# Altium footprint library inductors.PcbLib: 86 footprints (part 2 of 6)
Each footprint in its own frame and in the unit in brackets; x right, y up, seen from the top. Pads: shape width x height; smd on the part's side, far side on the other; paste and mask are expansions set on the pad; w line width, h text height; cw(c..) or ccw(c..) is an arc to the next point about the centre after c.
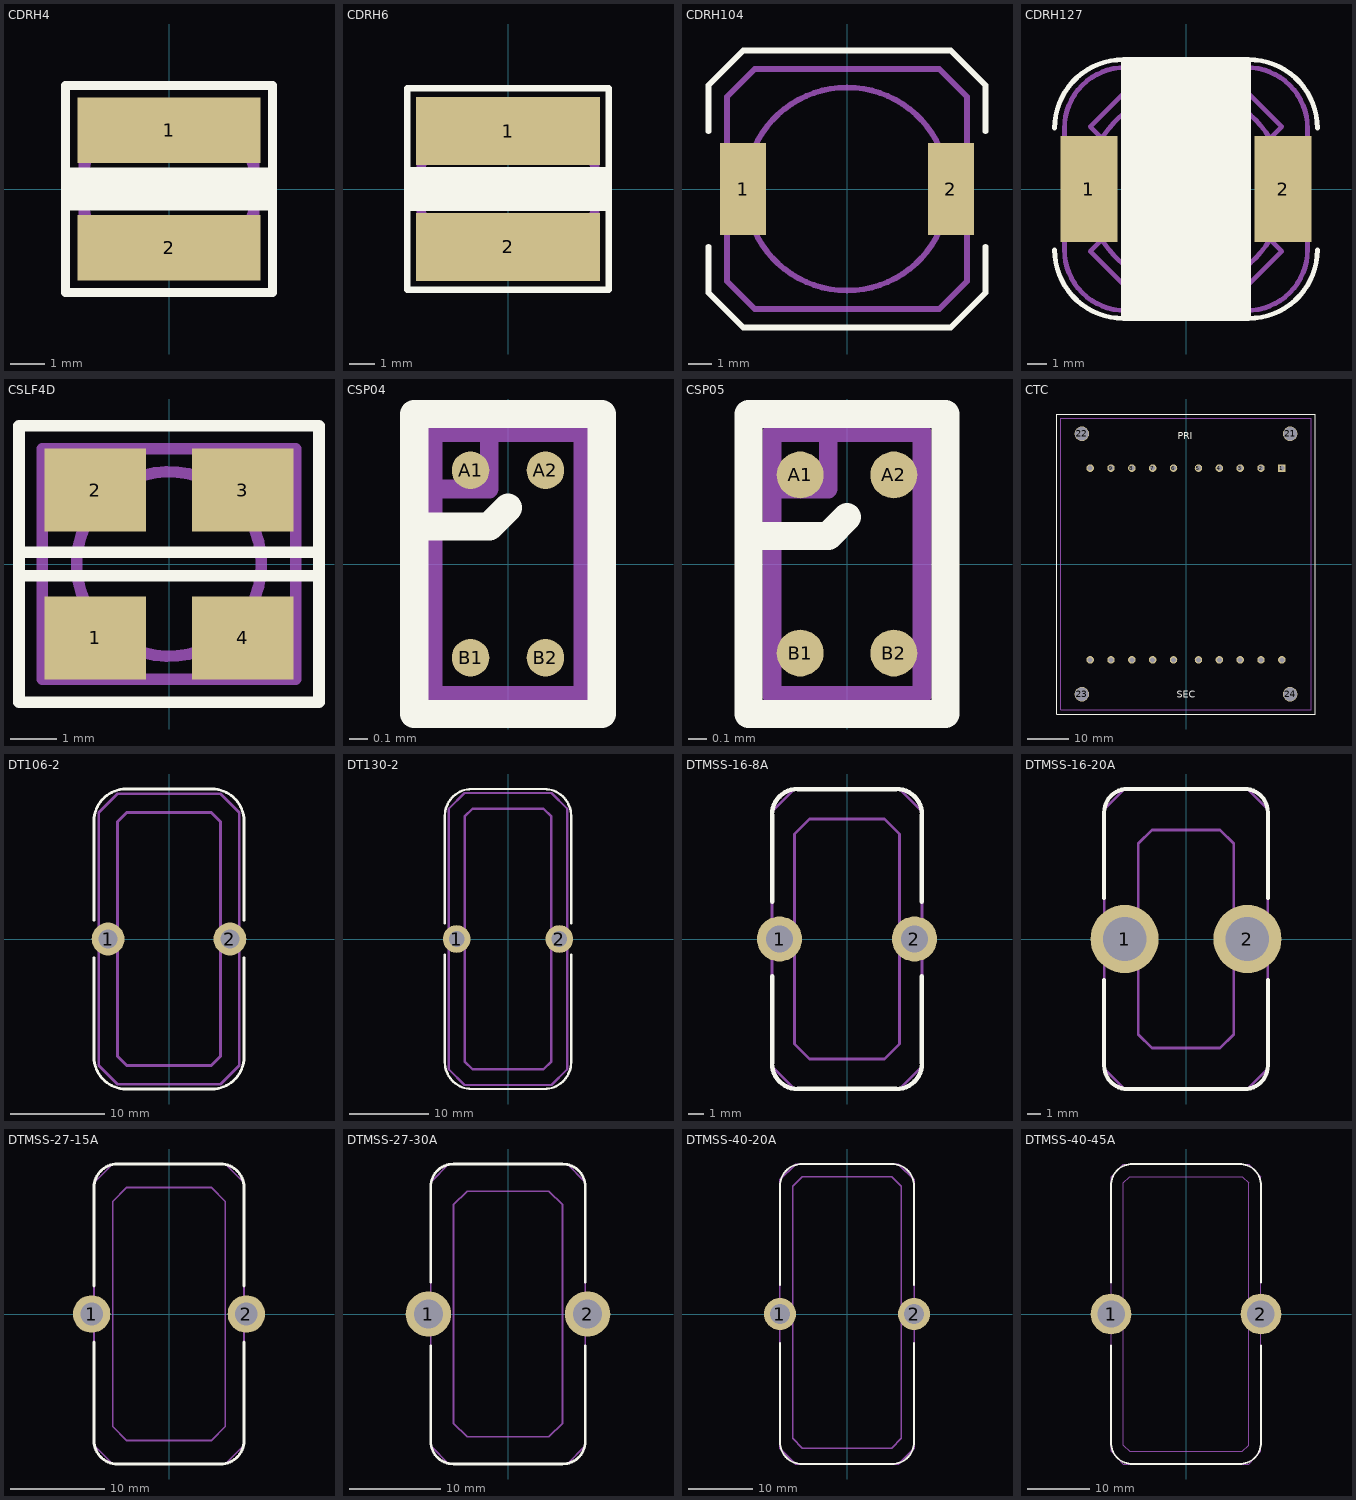
[diagram p1: the footprints below, top view; thin cyan lines are the x and y axes]

## CDRH4 [mm]
height 3
pads (2):
  rect 5.3x1.9 smd: 1(0,1.7) 2(0,-1.7)
Top Overlay:
  lines w0.25: -3,-0.5 3,-0.5 ; -3,-0.25 3,-0.25 ; -3,0 3,0 ; -3,0.25 3,0.25 ; -3,0.5 3,0.5 ; -3,-3 3,-3 3,3 -3,3 -3,-3
Mechanical 1:
  circle w0.25: c0,0 r2.5
  lines w0.25: -2.25,1.75 -2.5,2 -2,2.5 -1.75,2.25 ; 1.75,-2.25 2,-2.5 2.5,-2 2.25,-1.75 ; -2.5,-2.5 -2.5,1.5 -1.5,2.5 2.5,2.5 2.5,-1.5 1.5,-2.5 -2.5,-2.5
3D body: height 3, standoff 0.1, extent -2.5,-2.5 2.5,2.5
3D body: height 2, standoff 0, extent -2.45,1.65 -1.65,2.45
3D body: height 2, standoff 0, extent 1.65,-2.45 2.45,-1.65

## CDRH6 [mm]
height 4
pads (2):
  rect 7.3x2.7 smd: 1(0,2.3) 2(0,-2.3)
Top Overlay:
  lines w0.25: -4,-0.75 4,-0.75 ; -4,-0.5 4,-0.5 ; -4,-0.25 4,-0.25 ; -4,0 4,0 ; -4,0.25 4,0.25 ; -4,0.5 4,0.5 ; -4,0.75 4,0.75 ; -4,-4 4,-4 4,4 -4,4 -4,-4
Mechanical 1:
  circle w0.25: c0,0 r3.5
  lines w0.25: -3.25,2.25 -3.5,2.5 -2.5,3.5 -2.25,3.25 ; 2.25,-3.25 2.5,-3.5 3.5,-2.5 3.25,-2.25 ; -3.5,-3.5 2,-3.5 3.5,-2 3.5,3.5 -2,3.5 -3.5,2 -3.5,-3.5
3D body: height 4, standoff 0.1, extent -3.5,-3.5 3.5,3.5
3D body: height 3, standoff 0, extent 2.65,-3.45 3.45,-2.65
3D body: height 3, standoff 0, extent -3.45,2.65 -2.65,3.45

## CDRH104 [mm]
height 4
pads (2):
  rect 2x4 smd: 1(-4.5,0) 2(4.5,0)
Top Overlay:
  lines w0.25: -6,-2.5 -6,-4.5 -4.5,-6 4.5,-6 6,-4.5 6,-2.5 ; -6,2.5 -6,4.5 -4.5,6 4.5,6 6,4.5 6,2.5
Mechanical 1:
  circle w0.25: c0,0 r4.4
  lines w0.25: -5.2,-1.5 -4.15,-1.5 ; -5.2,1.5 -4.15,1.5 ; 4.15,-1.5 5.2,-1.5 ; 4.15,1.5 5.2,1.5 ; -5.2,-4 -4,-5.2 4,-5.2 5.2,-4 5.2,4 4,5.2 -4,5.2 -5.2,4 -5.2,-4
3D body: height 3.9, standoff 0.1, extent -5.1,-5.1 5.1,5.1
3D body: height 4, standoff 0, extent -5.25,-1.5 -4,1.5
3D body: height 4, standoff 0, extent 3.95,-1.4 5.2,1.6

## CDRH127 [mm]
height 8
pads (2):
  rect 2.9x5.4 smd: 1(-4.95,0) 2(4.95,0)
Top Overlay:
  lines w0.25: -6.7,-3.1 ccw(c-3.2,-3.1) -3.2,-6.6 ; -6.7,3.1 cw(c-3.2,3.1) -3.2,6.6 ; -3,-6.6 -3,6.6 ; -2.8,-6.6 -2.8,6.6 ; -2.6,-6.6 -2.6,6.6 ; -2.4,-6.6 -2.4,6.6 ; -2.2,-6.6 -2.2,6.6 ; -2,-6.6 -2,6.6 ; -1.8,-6.6 -1.8,6.6 ; -1.6,-6.6 -1.6,6.6 ; -1.4,-6.6 -1.4,6.6 ; -1.2,-6.6 -1.2,6.6 ; -1,-6.6 -1,6.6 ; -0.8,-6.6 -0.8,6.6 ; -0.6,-6.6 -0.6,6.6 ; -0.4,-6.6 -0.4,6.6 ; -0.2,-6.6 -0.2,6.6 ; 0,-6.6 0,6.6 ; 0.2,-6.6 0.2,6.6 ; 0.4,-6.6 0.4,6.6 ; 0.6,-6.6 0.6,6.6 ; 0.8,-6.6 0.8,6.6 ; 1,-6.6 1,6.6 ; 1.2,-6.6 1.2,6.6 ; 1.4,-6.6 1.4,6.6 ; 1.6,-6.6 1.6,6.6 ; 1.8,-6.6 1.8,6.6 ; 2,-6.6 2,6.6 ; 2.2,-6.6 2.2,6.6 ; 2.4,-6.6 2.4,6.6 ; 2.6,-6.6 2.6,6.6 ; 2.8,-6.6 2.8,6.6 ; 3,-6.6 3,6.6 ; 6.7,-3.1 cw(c3.2,-3.1) 3.2,-6.6 ; 6.7,3.1 ccw(c3.2,3.1) 3.2,6.6 ; -3.2,-6.6 3.2,-6.6 ; -3.2,-6.6 -3.2,6.6 ; -3.2,6.6 3.2,6.6 ; 3.2,-6.6 3.2,6.6
Mechanical 1:
  circle w0.25: c0,0 r5
  lines w0.25: -4.313,-2.616 -4.879,-3.182 -3.182,-4.879 -2.616,-4.313 ; -4.313,2.616 -4.879,3.182 -3.182,4.879 -2.616,4.313 ; 2.616,-4.313 3.182,-4.879 4.879,-3.182 4.313,-2.616 ; 2.616,4.313 3.182,4.879 4.879,3.182 4.313,2.616 ; -6.2,-3.1 ccw(c-3.1,-3.1) -3.1,-6.2 3.1,-6.2 ccw(c3.1,-3.1) 6.2,-3.1 6.2,3.1 ccw(c3.1,3.1) 3.1,6.2 -3.1,6.2 ccw(c-3.1,3.1) -6.2,3.1 -6.2,-3.1
3D body: height 8, standoff 0.1, extent -6.2,-6.2 6.2,6.2

## CSLF4D [mm]
pads (4):
  rect 2.2x1.8 smd: 1(-1.6,-1.6) 2(-1.6,1.6) 3(1.6,1.6) 4(1.6,-1.6)
Top Overlay:
  lines w0.25: -3.25,-0.25 3.25,-0.25 ; -3.25,0.25 3.25,0.25 ; -3.25,-3 3.25,-3 3.25,3 -3.25,3 -3.25,-3
Mechanical 1:
  circle w0.25: c0,0 r2
  circle w0.25: c0,0 r2
  lines w0.25: -2.75,-2.5 -2.75,2.5 2.75,2.5 2.75,-2.5 -2.75,-2.5

## CSP04 [mm]
height 0.6
pads (4):
  round 0.2 smd mask+0.025: A1(-0.2,0.5) A2(0.2,0.5) B1(-0.2,-0.5) B2(0.2,-0.5)
Top Overlay:
  lines w0.15: -0.5,0.2 -0.1,0.2 0,0.3 ; -0.5,-0.8 0.5,-0.8 0.5,0.8 -0.5,0.8 -0.5,-0.8
Mechanical 1:
  lines w0.1: -0.4,0.4 -0.1,0.4 -0.1,0.7 ; -0.4,-0.7 0.4,-0.7 0.4,0.7 -0.4,0.7 -0.4,-0.7
3D body: height 0.6, standoff 0.2, extent -0.4,-0.7 0.4,0.7

## CSP05 [mm]
height 0.6
pads (4):
  round 0.25 smd: A1(-0.25,0.475) A2(0.25,0.475) B1(-0.25,-0.475) B2(0.25,-0.475)
Top Overlay:
  lines w0.15: -0.5,0.15 -0.1,0.15 0,0.25 ; -0.525,-0.8 -0.525,0.8 0.525,0.8 0.525,-0.8 -0.525,-0.8
Mechanical 1:
  lines w0.1: -0.4,0.4 -0.1,0.4 -0.1,0.7 ; -0.4,-0.7 -0.4,0.7 0.4,0.7 0.4,-0.7 -0.4,-0.7
3D body: height 0.6, standoff 0.2, extent -0.4,-0.7 0.4,0.7

## CTC [mm]
pads (24):
  rect 1.8x1.8 hole 1.2: 1(23,23)
  round 1.8 hole 1.2: 2(18,23) 3(13,23) 4(8,23) 5(3,23) 6(-3,23) 7(-8,23) 8(-13,23) 9(-18,23) 10(-23,23) 11(-23,-23) 12(-18,-23) 13(-13,-23) 14(-8,-23) 15(-3,-23) 16(3,-23) 17(8,-23) 18(13,-23) 19(18,-23) 20(23,-23)
  round 3.5 hole 3.2 unplated: 21(25,31.25) 22(-25,31.25) 23(-25,-31.25) 24(25,-31.25)
Top Overlay:
  lines w0.25: -31,-36 31,-36 31,36 -31,36 -31,-36
  text "SEC" at -2.249,-32.676 h2.82
  text "PRI" at -1.984,29.324 h2.82
Mechanical 1:
  lines w0.25: -30,-35 30,-35 30,35 -30,35 -30,-35

## DT106-2 [mm] "Toroid core 27mm, 2mm hole"
height 30
pads (2):
  round 3.5 hole 2: 1(-6.5,0) 2(6.5,0)
Top Overlay:
  lines w0.3: -8,-2 -8,-12.586 ccw(c-4.586,-12.586) -4.586,-16 4.586,-16 ccw(c4.586,-12.586) 8,-12.586 8,-2 ; -8,2 -8,12.586 cw(c-4.586,12.586) -4.586,16 4.586,16 cw(c4.586,12.586) 8,12.586 8,2
Mechanical 1:
  lines w0.3: -7.5,-13.5 -5.5,-15.5 5.5,-15.5 7.5,-13.5 7.5,13.5 5.5,15.5 -5.5,15.5 -7.5,13.5 -7.5,-13.5 ; -5.5,-12.5 -4.5,-13.5 4.5,-13.5 5.5,-12.5 5.5,12.5 4.5,13.5 -4.5,13.5 -5.5,12.5 -5.5,-12.5
3D body: height 29.98, standoff 0, extent -7,-14.996 7,14.996

## DT130-2 [mm] "Toroid core 33mm, 2mm hole"
height 36
pads (2):
  round 3.5 hole 2: 1(-6.5,0) 2(6.5,0)
Top Overlay:
  lines w0.3: -8,-2 -8,-15.586 ccw(c-4.586,-15.586) -4.586,-19 4.586,-19 ccw(c4.586,-15.586) 8,-15.586 8,-2 ; -8,2 -8,15.586 cw(c-4.586,15.586) -4.586,19 4.586,19 cw(c4.586,15.586) 8,15.586 8,2
Mechanical 1:
  lines w0.3: -7.5,-16.5 -5.5,-18.5 5.5,-18.5 7.5,-16.5 7.5,16.5 5.5,18.5 -5.5,18.5 -7.5,16.5 -7.5,-16.5 ; -5.5,-15.5 -4.5,-16.5 4.5,-16.5 5.5,-15.5 5.5,15.5 4.5,16.5 -4.5,16.5 -5.5,15.5 -5.5,-15.5
3D body: height 35.98, standoff 0, extent -7,-17.995 7,17.995

## DTMSS-16-8A [mm] "Toroid core 16mm, 1.8mm hole"
height 20
pads (2):
  round 3 hole 1.8: 1(-4.5,0) 2(4.5,0)
Top Overlay:
  lines w0.3: -5,-2.5 -5,-8.293 ccw(c-3.293,-8.293) -3.293,-10 3.293,-10 ccw(c3.293,-8.293) 5,-8.293 5,-2.5 ; -5,2.5 -5,8.293 cw(c-3.293,8.293) -3.293,10 3.293,10 cw(c3.293,8.293) 5,8.293 5,2.5
Mechanical 1:
  lines w0.2: -5,-8.5 -3.5,-10 3.5,-10 5,-8.5 5,8.5 3.5,10 -3.5,10 -5,8.5 -5,-8.5 ; -3.5,-7 -3.5,7 -2.5,8 2.5,8 3.5,7 3.5,-7 2.5,-8 -2.5,-8 -3.5,-7
3D body: height 20.99, standoff 1, extent -5,-9.997 5,9.997

## DTMSS-16-20A [mm] "Toroid core 16mm, 3.2mm hole"
height 22
pads (2):
  round 5 hole 3.2: 1(-4.5,0) 2(4.5,0)
Top Overlay:
  lines w0.3: -6,-3 -6,-9.293 ccw(c-4.293,-9.293) -4.293,-11 4.293,-11 ccw(c4.293,-9.293) 6,-9.293 6,-3 ; -6,3 -6,9.293 cw(c-4.293,9.293) -4.293,11 4.293,11 cw(c4.293,9.293) 6,9.293 6,3
Mechanical 1:
  lines w0.2: -6,-9.5 -6,9.5 -4.5,11 4.5,11 6,9.5 6,-9.5 4.5,-11 -4.5,-11 -6,-9.5 ; -3.5,-7 -3.5,7 -2.5,8 2.5,8 3.5,7 3.5,-7 2.5,-8 -2.5,-8 -3.5,-7
3D body: height 22.99, standoff 1, extent -6,-10.997 6,10.997

## DTMSS-27-15A [mm] "Toroid core 27mm, 2.4mm hole"
height 34
pads (2):
  round 4 hole 2.4: 1(-8.25,0) 2(8.25,0)
Top Overlay:
  lines w0.3: -8,-3 -8,-13.5 ccw(c-5.5,-13.5) -5.5,-16 5.5,-16 ccw(c5.5,-13.5) 8,-13.5 8,-3 ; -8,3 -8,13.5 cw(c-5.5,13.5) -5.5,16 5.5,16 cw(c5.5,13.5) 8,13.5 8,3
Mechanical 1:
  lines w0.2: -8,-14 -6,-16 6,-16 8,-14 8,14 6,16 -6,16 -8,14 -8,-14 ; -6,-12 -4.5,-13.5 4.5,-13.5 6,-12 6,12 4.5,13.5 -4.5,13.5 -6,12 -6,-12
3D body: height 32.98, standoff 1, extent -8,-15.996 8,15.996

## DTMSS-27-30A [mm] "Toroid core 27mm, 3.2mm hole"
height 34
pads (2):
  round 5 hole 3.2: 1(-8.75,0) 2(8.75,0)
Top Overlay:
  lines w0.3: -8.5,-3.5 -8.5,-14 ccw(c-6,-14) -6,-16.5 6,-16.5 ccw(c6,-14) 8.5,-14 8.5,-3.5 ; -8.5,3.5 -8.5,14 cw(c-6,14) -6,16.5 6,16.5 cw(c6,14) 8.5,14 8.5,3.5
Mechanical 1:
  lines w0.2: -8.5,-14.5 -6.5,-16.5 6.5,-16.5 8.5,-14.5 8.5,14.5 6.5,16.5 -6.5,16.5 -8.5,14.5 -8.5,-14.5 ; -6,-12 -4.5,-13.5 4.5,-13.5 6,-12 6,12 4.5,13.5 -4.5,13.5 -6,12 -6,-12
3D body: height 33.48, standoff 0.5, extent -8.5,-16.495 8.5,16.495

## DTMSS-40-20A [mm] "Toroid core 40mm, 3.2mm hole"
height 47
pads (2):
  round 5 hole 3.2: 1(-10.5,0) 2(10.5,0)
Top Overlay:
  lines w0.3: -10.5,-4.5 -10.5,-20.086 ccw(c-7.086,-20.086) -7.086,-23.5 7,-23.5 ; -10.5,4.5 -10.5,20.086 cw(c-7.086,20.086) -7.086,23.5 7,23.5 ; 7.086,-23.5 ccw(c7.086,-20.086) 10.5,-20.086 10.5,-4.5 ; 7.086,23.5 cw(c7.086,20.086) 10.5,20.086 10.5,4.5
Mechanical 1:
  lines w0.2: -10.5,-21 -10.5,21 -8,23.5 8,23.5 10.5,21 10.5,-21 8,-23.5 -8,-23.5 -10.5,-21 ; -8.5,-19.5 -7,-21 7,-21 8.5,-19.5 8.5,20 7,21.5 -7,21.5 -8.5,20 -8.5,-19 -8.5,-19.5
3D body: height 47.97, standoff 1, extent -10.5,-23.494 10.5,23.494

## DTMSS-40-45A [mm] "Toroid core 40mm, 4.4mm hole"
height 48
pads (2):
  round 6.5 hole 4.4: 1(-12,0) 2(12,0)
Top Overlay:
  lines w0.3: -12,-5 -12,-20.586 ccw(c-8.586,-20.586) -8.586,-24 8.586,-24 ccw(c8.586,-20.586) 12,-20.586 12,-5 ; -12,5 -12,20.586 cw(c-8.586,20.586) -8.586,24 8.586,24 cw(c8.586,20.586) 12,20.586 12,5
Mechanical 1:
  lines w0.2: -12,-22 -10,-24 10,-24 12,-22 12,22 10,24 -10,24 -12,22 -12,-22 ; -10,-21 -9,-22 9,-22 10,-21 10,21 9,22 -9,22 -10,21 -10,-21
3D body: height 48.97, standoff 1, extent -12,-23.993 12,23.993